# Altium footprint library SnapEDApcb.PcbLib: 1 footprints
Each footprint in its own frame and in the unit in brackets; x right, y up, seen from the top. Pads: shape width x height; smd on the part's side, far side on the other; paste and mask are expansions set on the pad; w line width, h text height; cw(c..) or ccw(c..) is an arc to the next point about the centre after c.
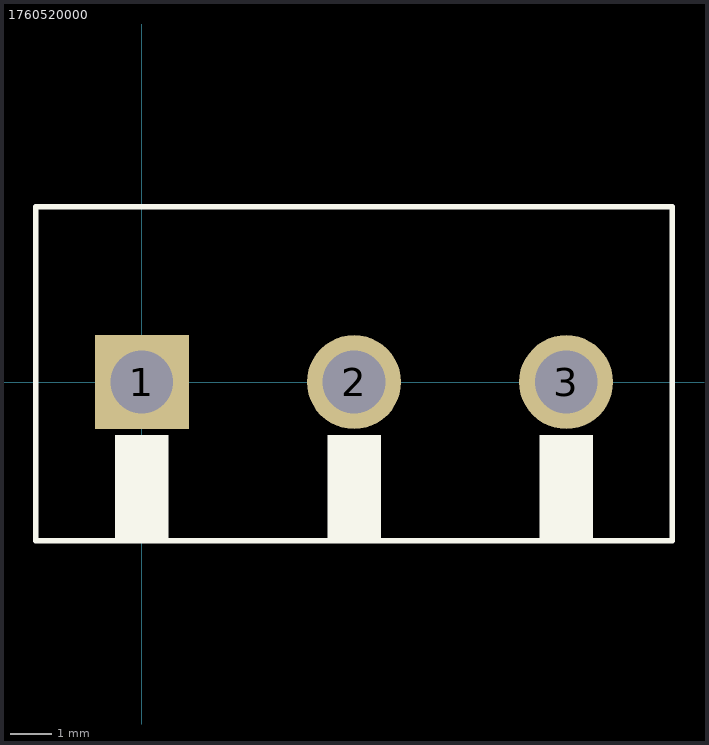
[diagram p0: the footprint, top view; thin cyan lines are the x and y axes]

## 1760520000 [mm]
pads (3):
  rect 2.25x2.25 hole 1.5: 1(0,0)
  round 2.25 hole 1.5: 2(5.08,0) 3(10.16,0)
Top Overlay:
  region: 0.635,-3.813 -0.636,-3.813 -0.636,-1.27 0.635,-1.27
  region: 5.715,-3.814 4.449,-3.814 4.449,-1.27 5.715,-1.27
  region: 10.795,-3.812 9.53,-3.812 9.53,-1.27 10.795,-1.27
  lines w0.127: -2.54,-3.8 -2.54,4.2 12.7,4.2 12.7,-3.8 -2.54,-3.8